# Altium footprint library Sensor_node.PcbLib: 5 footprints
Each footprint in its own frame and in the unit in brackets; x right, y up, seen from the top. Pads: shape width x height; smd on the part's side, far side on the other; paste and mask are expansions set on the pad; w line width, h text height; cw(c..) or ccw(c..) is an arc to the next point about the centre after c.
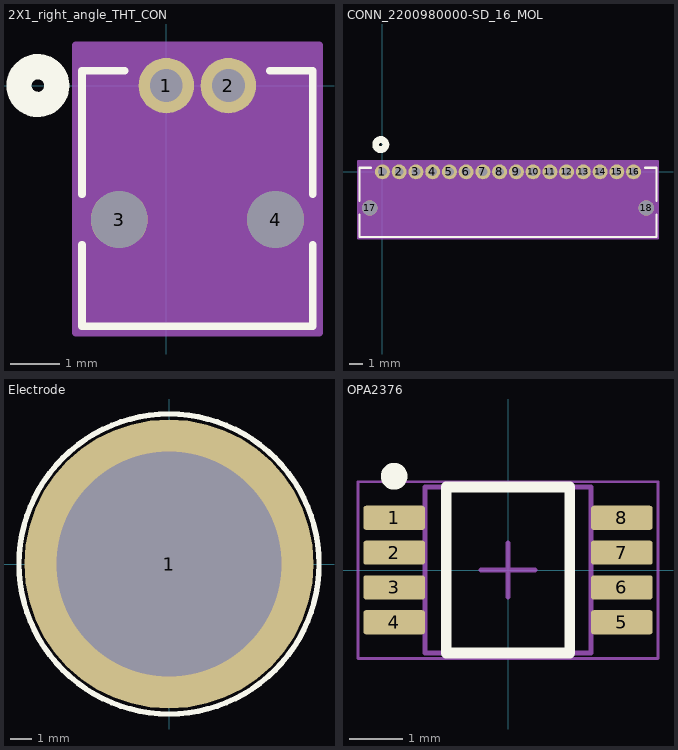
[diagram p0: the footprints below, top view; thin cyan lines are the x and y axes]

## 2X1_right_angle_THT_CON [mil]
pads (4):
  round 44 hole 26 paste-99999 mask+0: 1(0,0) 2(49.21,0)
  round 45 hole 45 unplated paste-99999 mask+0: 3(-37.4,-106.3) 4(86.61,-106.3)
Top Overlay:
  circle w20: c-101.89,0 r15
  lines w6: -66.89,-126.24 -66.89,-191.11 116.11,-191.11 116.11,-126.24 ; -66.89,-86.36 -66.89,11.89 -33.02,11.89 ; 82.24,11.89 116.11,11.89 116.11,-86.36
  text ".Designator" at -112.89,-25 h50
Bottom Overlay:
  circle w20: c-101.89,0 r15
Mechanical 13:
  circle w20: c0,0 r15
  lines w1: -61.89,-186.11 -61.89,6.89 111.11,6.89 111.11,-186.11 -61.89,-186.11
  text ".Designator" at -112.89,-25 h50
Mechanical 15:
  region: 121.11,32 -71.89,32 -71.89,-196.11 121.11,-196.11
  lines w6: -71.89,-196.11 121.11,-196.11 121.11,32 -71.89,32 -71.89,-196.11
3D body "2200980271.stp": height 140.26, standoff -101.86, extent -61.61,-187.52 111.61,5

## CONN_2200980000-SD_16_MOL [mil]
pads (18):
  round 44 hole 26 paste-99999 mask+0: 1(0,0) 2(49.21,0) 3(98.43,0) 4(147.64,0) 5(196.85,0) 6(246.06,0) 7(295.28,0) 8(344.49,0) 9(393.7,0) 10(442.91,0) 11(492.13,0) 12(541.34,0) 13(590.55,0) 14(639.76,0) 15(688.98,0) 16(738.19,0)
  round 45 hole 45 unplated paste-99999 mask+0: 17(-37.4,-106.3) 18(775.59,-106.3)
Top Overlay:
  circle w20: c-5,80 r15
  lines w6: -66.91,-126.22 -66.91,-191.11 805.09,-191.11 805.09,-126.22 ; -66.91,-86.38 -66.91,11.89 -33.02,11.89 ; 771.21,11.89 805.09,11.89 805.09,-86.38
  text ".Designator" at 231.59,-25 h50
Mechanical 13:
  circle w20: c0,0 r15
  lines w1: -61.91,-186.11 -61.91,6.89 800.09,6.89 800.09,-186.11 -61.91,-186.11
  text ".Designator" at 231.59,-25 h50
Mechanical 15:
  region: 810.09,32 -71.91,32 -71.91,-196.11 810.09,-196.11
  lines w6: -71.91,-196.11 810.09,-196.11 810.09,32 -71.91,32 -71.91,-196.11
3D body "2200981671.stp": height 140.26, standoff -101.86, extent -62.01,-185.63 800.2,6.89

## Electrode [mm]
pads (1):
  round 13.5 hole 10.5: 1(0,0)
Top Overlay:
  circle w0.254: c0,0 r7

## OPA2376 [mm] "TSOP, 8-Leads, Body 3.1x3.1mm, Pitch 0.65mm, IPC High Density"
height 1.1
pads (8):
  rrect22% 1.15x0.45 smd: 1(-2.125,0.975) 2(-2.125,0.325) 3(-2.125,-0.325) 4(-2.125,-0.975) 5(2.125,-0.975) 6(2.125,-0.325) 7(2.125,0.325) 8(2.125,0.975)
Top Overlay:
  circle w0.25: c-2.125,1.75 r0.125
  lines w0.2: -1.15,-1.55 1.15,-1.55 1.15,1.55 -1.15,1.55 -1.15,-1.55
Mechanical 1:
  text ".Designator" at -1.397,-0.254 h0.7
Mechanical 13:
  lines w0.1: -1.55,-1.55 1.55,-1.55 1.55,1.55 -1.55,1.55 -1.55,-1.55
Mechanical 15:
  lines w0.05: -2.8,-1.65 2.8,-1.65 2.8,1.65 -2.8,1.65 -2.8,-1.65
  lines w0.1: -0.5,0 0.5,0 ; 0,-0.5 0,0.5
3D body "MUY08A_ASM.stp": height 0.94, standoff -0.02, extent -2.451,-1.499 2.451,1.499

## PCBComponent_1 [mm]